# Altium schematic symbol library ER-TFT1.54-1.Schlib: 1 symbol
Pins are listed as number, name and electrical type; pins without a type are passive.

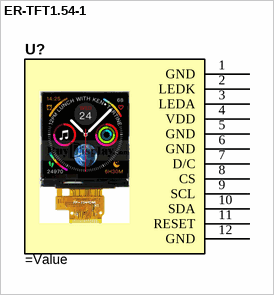
[diagram p0: symbol ER-TFT1.54-1]

## ER-TFT1.54-1
designator U?
1.54" 240x240 IPS Display
pins: 1 GND, 2 LEDK, 3 LEDA, 4 VDD, 5 GND, 6 GND, 7 D/C, 8 CS, 9 SCL, 10 SDA, 11 RESET, 12 GND